# Altium schematic symbol library Schlib2.SchLib: 5 symbols
Pins are listed as number, name and electrical type; pins without a type are passive.

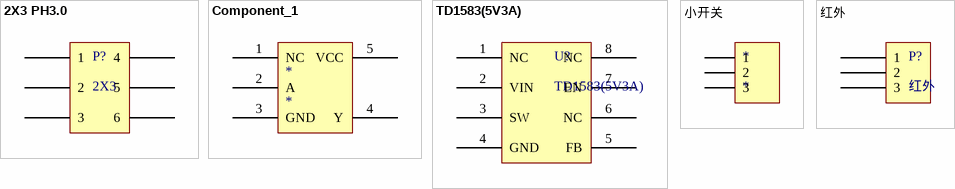
[diagram p0: symbols 2X3 PH3.0 to 红外]

## 2X3 PH3.0
designator P?, comment 2X3
footprint 2X3P PH2.0
pins: 1, 2, 3, 4, 5, 6

## Component_1
designator *
footprint SN74HC
pins: 1 NC, 2 A, 3 GND, 4 Y, 5 VCC

## TD1583(5V3A)
designator U?
footprint TD1583
pins: 1 NC, 2 VIN, 3 SW, 4 GND, 5 FB, 6 NC, 7 EN, 8 NC

## 小开关
designator *
footprint 小开关
pins: 1, 2, 3

## 红外
designator P?
footprint 红外接收模块
pins: 1, 2, 3